# Altium integrated library 436331045822.IntLib: 1 symbol
Pins are listed as number, name and electrical type; pins without a type are passive.

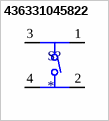
[diagram p0: symbol 436331045822]

## 436331045822
designator S?
4.7*3.5mm, side push type, SMT, with boss design, height 1.65mm, black actuator , 220gf, T&R; MF: Wurth Electronics; MP: 436331045822; SnapEDA_Link: https://www.snapeda.com/parts/436331045822/Wurth+Electronics/view-part/?ref=snap; Package: None; Value: *; Check_prices: https://www.snapeda.com/parts/436331045822/Wurth+Electronics/view-part/?ref=eda
footprint 4363X10458XX
pins: 1 3, 2 4, 3 1, 4 2